# EAGLE library part MMA8452QR1 (library Sensor)
ACCELEROMETER 2-8G I2C 16QFN
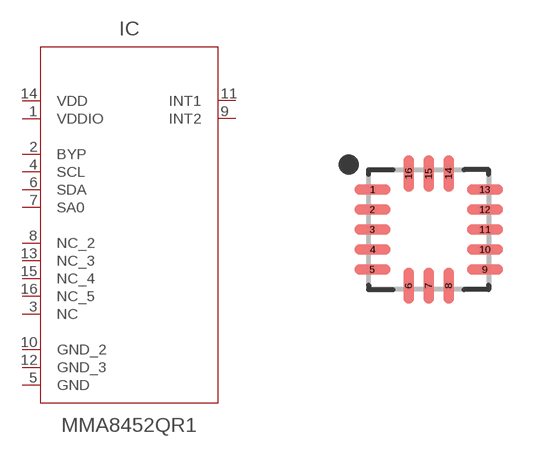
[diagram p5: symbol with the pads of QFN50P300X300X100-16N; footprint QFN50P300X300X100-16N]

Designator prefix IC

## MMA8452QR1_QFN (CATEGORY: Sensor; MANUFACTURER: NXP USA Inc.; MPN: MMA8452QR1; OPERATING_TEMP: -40 to 85 °C; PARTS_STATUS: Active; ROHS_COMPLIANT: RoHS3 Compliant; SUB-CATEGORY: Motion; TYPE: Accelerometer; VALUE: MMA8452QR1)  [QFN50P300X300X100-16N]
1  VDDIO  pwr
2  BYP  in
3  NC  nc
4  SCL  in
5  GND  pas
6  SDA  in
7  SA0  in
8  NC_2  nc
9  INT2  out
10  GND_2  pas
11  INT1  out
12  GND_3  pas
13  NC_3  nc
14  VDD  pwr
15  NC_4  nc
16  NC_5  nc

## Footprint QFN50P300X300X100-16N (pad centres in mm)
16-QFN, 0.50 mm pitch, 3.00 X 3.00 X 1.00 mm body 16-pin QFN package with 0.50 mm pitch with body size 3.00 X 3.00 X 1.00 mm
smd 0.904 x 0.264: 1 -1.404,1; 2 -1.404,0.5; 3 -1.404,0; 4 -1.404,-0.5; 5 -1.404,-1; 9 1.404,-1; 10 1.404,-0.5; 11 1.404,0; 12 1.404,0.5; 13 1.404,1
smd 0.264 x 0.904: 6 -0.5,-1.404; 7 0,-1.404; 8 0.5,-1.404; 14 0.5,1.404; 15 0,1.404; 16 -0.5,1.404